# Altium footprint library TO_SOT_Footprints.PcbLib: 6 footprints
Each footprint in its own frame and in the unit in brackets; x right, y up, seen from the top. Pads: shape width x height; smd on the part's side, far side on the other; paste and mask are expansions set on the pad; w line width, h text height; cw(c..) or ccw(c..) is an arc to the next point about the centre after c.
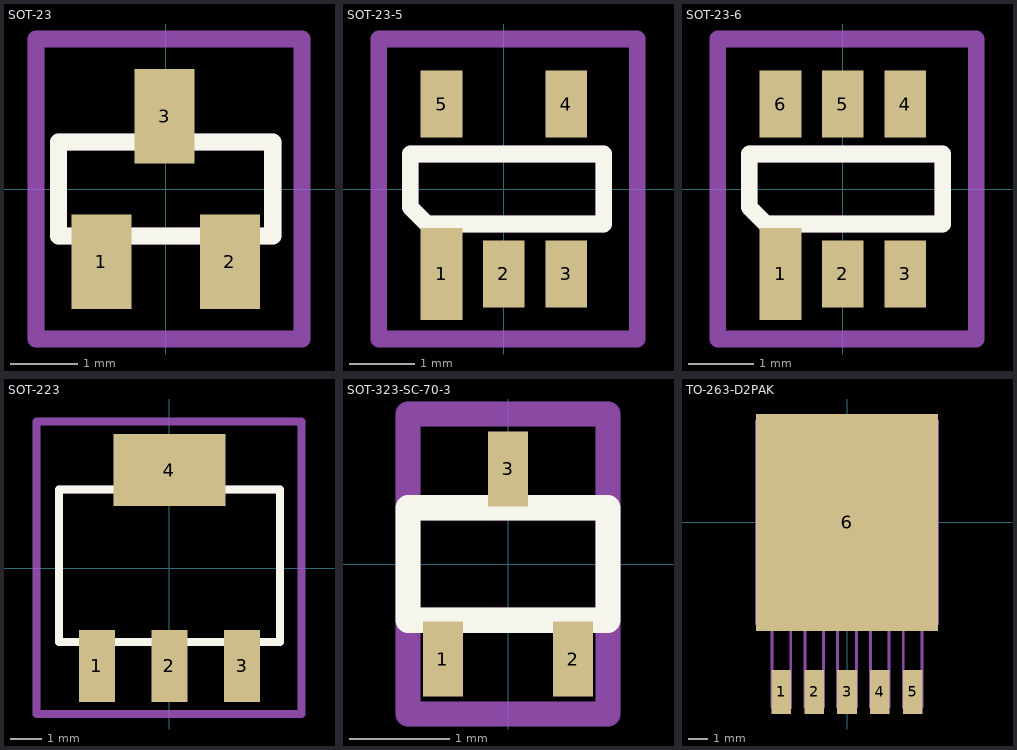
[diagram p0: the footprints below, top view; thin cyan lines are the x and y axes]

## SOT-23 [mil]
pads (3):
  rect 35x55 smd: 1(-37.5,-42.5) 2(37.5,-42.5) 3(-0.5,42.5)
Top Overlay:
  lines w10: -62.5,-27.5 -62.5,27.5 62.5,27.5 62.5,-27.5 -62.5,-27.5
Mechanical 1:
  lines w10: -75.5,-87.5 79.5,-87.5 79.5,87.5 -75.5,87.5 -75.5,-87.5
Top Assembly:
  lines w10: -62.5,-27.5 -62.5,27.5 62.5,27.5 62.5,-27.5 -62.5,-27.5
3D body "SOT-23.step": height 47.24, standoff 0, extent -59.56,-51.71 58.56,46.71

## SOT-23-5 [mil]
pads (5):
  rect 25x55 smd: 1(-37.4,-51)
  rect 25x40 smd: 2(0,-51) 3(37.4,-51) 4(37.4,51) 5(-37.4,51)
Top Overlay:
  lines w10: -56.1,-11 -46.1,-21 60,-21 60,21 -56.1,21 -56.1,-11
Mechanical 10:
  lines w10: -56.1,-11 -46.1,-21 60,-21 60,21 -56.1,21 -56.1,-11
Mechanical 16:
  lines w10: -75,-90 80,-90 80,90 -75,90 -75,-90
3D body "SOT-23-5.step": height 61.02, standoff 0, extent -57.09,-56.12 57.09,54.12

## SOT-23-6 [mil]
pads (6):
  rect 25x55 smd: 1(-37.4,-51)
  rect 25x40 smd: 2(0,-51) 3(37.4,-51) 4(37.4,51) 5(0,51) 6(-37.4,51)
Top Overlay:
  lines w10: -56.1,-11 -46.1,-21 60,-21 60,21 -56.1,21 -56.1,-11
Top Assembly:
  lines w10: -56.1,-11 -56.1,21 60,21 60,-21 -46.1,-21 -56.1,-11
Mechanical 16:
  lines w10: -75,-90 80,-90 80,90 -75,90 -75,-90
3D body "SOT-23-6.step": height 61.02, standoff 0, extent -57.09,-55.12 57.09,55.12

## SOT-223 [mil]
pads (4):
  rect 45x90 smd: 1(-90.55,-122.05) 2(0,-122.05) 3(90.55,-122.05)
  rect 140x90 smd: 4(0,122.05)
Top Overlay:
  lines w10: -137.79,-92.05 -137.79,97.95 137.8,97.95 137.8,-92.05 -137.79,-92.05
Top Assembly:
  lines w10: -137.79,-92.05 -137.79,97.95 137.8,97.95 137.8,-92.05 -137.79,-92.05
Mechanical 16:
  lines w10: -165.55,-182.04 164.45,-182.04 164.45,182.96 -165.55,182.96 -165.55,-182.04
3D body "SOT-223.step": height 66.93, standoff 0, extent -128,-144.84 127.9,130.75

## SOT-323-SC-70-3 [mm]
pads (3):
  rect 0.4x0.75 smd: 1(-0.65,-0.95) 2(0.65,-0.95) 3(0,0.95)
Top Overlay:
  lines w0.254: -1,-0.563 -1,0.563 1,0.563 1,-0.563 -1,-0.563
Top Assembly:
  lines w0.254: -1,-0.563 -1,0.563 1,0.563 1,-0.563 -1,-0.563
Mechanical 16:
  lines w0.254: -1,-1.5 -1,1.5 1,1.5 1,-1.5 -1,-1.5
3D body "SOT-323_SC-70.step": height 1.05, standoff 0, extent -1,-1 1,1

## TO-263-D2PAK [mil] "TO-263, D2PAK"
pads (6):
  rect 40x90 smd paste+0 mask+4.02: 1(-134,-346.5) 2(-67,-346.5) 3(0,-346.5) 4(67,-346.5) 5(134,-346.5)
  rect 372x443 smd paste+0 mask+4.02: 6(0,0)
Mechanical 13:
  lines w6: -185,-208 -185,208 185,208 185,-208 -185,-208 ; -153,-378 -115,-378 -115,-208 -153,-208 -153,-378 ; -86,-378 -48,-378 -48,-208 -86,-208 -86,-378 ; -19,-378 19,-378 19,-208 -19,-208 -19,-378 ; 48,-378 86,-378 86,-208 48,-208 48,-378 ; 115,-378 153,-378 153,-208 115,-208 115,-378
3D body "step_temp.STEP": height 180, standoff -4, extent -202.5,-365 200,188